# Altium footprint library PcbLib1.PcbLib: 2 footprints
Each footprint in its own frame and in the unit in brackets; x right, y up, seen from the top. Pads: shape width x height; smd on the part's side, far side on the other; paste and mask are expansions set on the pad; w line width, h text height; cw(c..) or ccw(c..) is an arc to the next point about the centre after c.
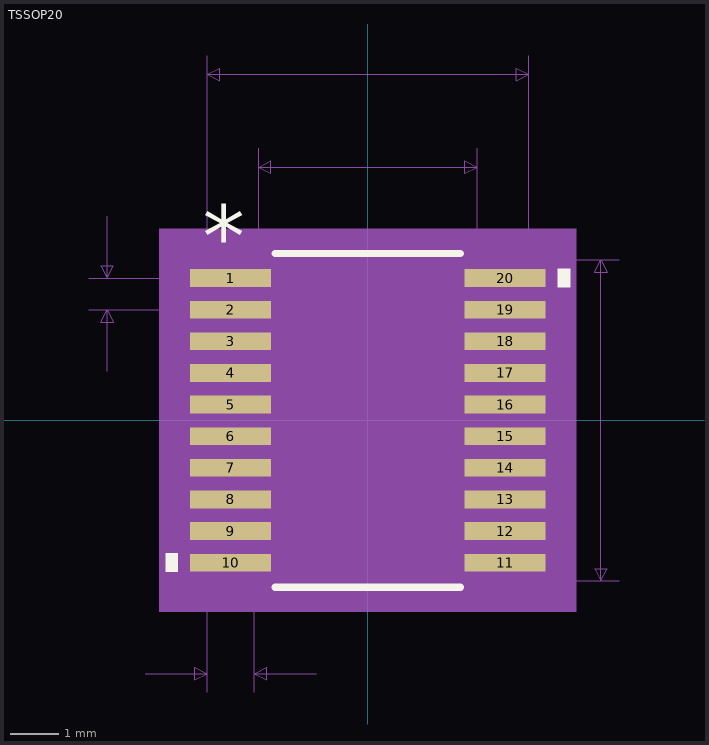
[diagram p0: the footprints below, top view; thin cyan lines are the x and y axes]

## PCBComponent_1 [mm]

## TSSOP20 [mm]
pads (20):
  rect 1.665x0.365 smd paste+0 mask+0: 1(-2.819,2.925) 2(-2.819,2.275) 3(-2.819,1.625) 4(-2.819,0.975) 5(-2.819,0.325) 6(-2.819,-0.325) 7(-2.819,-0.975) 8(-2.819,-1.625) 9(-2.819,-2.275) 10(-2.819,-2.925) 11(2.819,-2.925) 12(2.819,-2.275) 13(2.819,-1.625) 14(2.819,-0.975) 15(2.819,-0.325) 16(2.819,0.325) 17(2.819,0.975) 18(2.819,1.625) 19(2.819,2.275) 20(2.819,2.925)
Top Overlay:
  region: 3.906,3.115 4.16,3.115 4.16,2.734 3.906,2.734
  region: -3.906,-2.734 -4.16,-2.734 -4.16,-3.115 -3.906,-3.115
  lines w0.152: -1.901,-3.429 1.901,-3.429 ; -1.901,3.429 1.901,3.429
  text "*" at -3.391,3.163 h1.27
Mechanical 5:
  region: 4.287,-3.937 -4.287,-3.937 -4.287,3.937 4.287,3.937
Mechanical 7:
  lines w0.025: -5.74,2.275 -2.819,2.275 ; -5.74,2.925 -2.819,2.925 ; -5.359,1.005 -5.359,2.275 ; -5.359,4.195 -5.359,2.925 ; -4.572,-5.207 -3.302,-5.207 ; -3.302,-5.588 -3.302,0 -3.302,7.493 ; -2.337,-5.588 -2.337,0 ; -2.248,0 -2.248,5.588 ; -1.067,-5.207 -2.337,-5.207 ; 0,-3.302 5.169,-3.302 ; 0,3.302 5.169,3.302 ; 2.248,0 2.248,5.588 ; 3.302,0 3.302,7.493 ; -5.359,2.275 -5.232,2.021 -5.486,2.021 -5.359,2.275 ; -5.359,2.925 -5.232,3.179 -5.486,3.179 -5.359,2.925 ; -3.302,-5.207 -3.556,-5.334 -3.556,-5.08 -3.302,-5.207 ; -3.302,7.112 -3.048,6.985 -3.048,7.239 -3.302,7.112 ; -3.302,7.112 3.302,7.112 ; -2.337,-5.207 -2.083,-5.334 -2.083,-5.08 -2.337,-5.207 ; -2.248,5.207 -1.994,5.08 -1.994,5.334 -2.248,5.207 ; -2.248,5.207 2.248,5.207 ; 2.248,5.207 1.994,5.08 1.994,5.334 2.248,5.207 ; 3.302,7.112 3.048,6.985 3.048,7.239 3.302,7.112 ; 4.788,-3.302 4.915,-3.048 4.661,-3.048 4.788,-3.302 ; 4.788,-3.302 4.788,3.302 ; 4.788,3.302 4.915,3.048 4.661,3.048 4.788,3.302
  text "0.03in/0.762mm" at -5.042,-6.35 h0.64
  text "0.026in/0.65mm" at -10.312,2.282 h0.64
  text "0.26in/6.604mm" at 5.296,-0.318 h0.64
  text "0.26in/6.604mm" at -2.222,7.62 h0.64
  text "0.177in/4.496mm" at -2.381,5.715 h0.64
  text "Alt 2 Padstyle: b229_152h76" at -8.572,-16.002 h1.27
  text "Alt 1 Padstyle: b152_229h76" at -8.572,-14.478 h1.27
  text "Pin One Padstyle: r167_36" at -7.938,-9.906 h1.27
  text "Default Padstyle: r167_36" at -7.938,-8.382 h1.27
Mechanical 13:
  lines w0: -0.305,3.302 ccw(c0,3.302) 0.305,3.302
  lines w0.025: -3.302,-3.077 -2.248,-3.077 -2.248,-2.773 -3.302,-2.773 -3.302,-3.077 ; -3.302,-2.427 -2.248,-2.427 -2.248,-2.123 -3.302,-2.123 -3.302,-2.427 ; -3.302,-1.777 -2.248,-1.777 -2.248,-1.473 -3.302,-1.473 -3.302,-1.777 ; -3.302,-1.127 -2.248,-1.127 -2.248,-0.823 -3.302,-0.823 -3.302,-1.127 ; -3.302,-0.477 -2.248,-0.477 -2.248,-0.173 -3.302,-0.173 -3.302,-0.477 ; -3.302,0.173 -2.248,0.173 -2.248,0.477 -3.302,0.477 -3.302,0.173 ; -3.302,0.823 -2.248,0.823 -2.248,1.127 -3.302,1.127 -3.302,0.823 ; -3.302,1.473 -2.248,1.473 -2.248,1.777 -3.302,1.777 -3.302,1.473 ; -3.302,2.123 -2.248,2.123 -2.248,2.427 -3.302,2.427 -3.302,2.123 ; -3.302,2.773 -2.248,2.773 -2.248,3.077 -3.302,3.077 -3.302,2.773 ; -2.248,-3.302 -2.248,3.302 2.248,3.302 2.248,-3.302 -2.248,-3.302 ; 2.248,-3.077 3.302,-3.077 3.302,-2.773 2.248,-2.773 2.248,-3.077 ; 2.248,-2.427 3.302,-2.427 3.302,-2.123 2.248,-2.123 2.248,-2.427 ; 2.248,-1.777 3.302,-1.777 3.302,-1.473 2.248,-1.473 2.248,-1.777 ; 2.248,-1.127 3.302,-1.127 3.302,-0.823 2.248,-0.823 2.248,-1.127 ; 2.248,-0.477 3.302,-0.477 3.302,-0.173 2.248,-0.173 2.248,-0.477 ; 2.248,0.173 3.302,0.173 3.302,0.477 2.248,0.477 2.248,0.173 ; 2.248,0.823 3.302,0.823 3.302,1.127 2.248,1.127 2.248,0.823 ; 2.248,1.473 3.302,1.473 3.302,1.777 2.248,1.777 2.248,1.473 ; 2.248,2.123 3.302,2.123 3.302,2.427 2.248,2.427 2.248,2.123 ; 2.248,2.773 3.302,2.773 3.302,3.077 2.248,3.077 2.248,2.773
  text "*" at -2.184,1.956 h1.27
Mechanical 15:
  region: -2.502,-3.361 -3.906,-3.361 -3.906,3.361 -2.502,3.361 -2.502,3.556 2.502,3.556 2.502,3.361 3.906,3.361 3.906,-3.361 2.502,-3.361 2.502,-3.556 -2.502,-3.556
  lines w0.152: -3.906,-3.361 -2.502,-3.361 -2.502,-3.556 2.502,-3.556 2.502,-3.361 3.906,-3.361 3.906,3.361 2.502,3.361 2.502,3.556 -2.502,3.556 -2.502,3.361 -3.906,3.361 -3.906,-3.361
3D body: height 0.25, standoff 0, extent 0,0 0.254,0.254
3D body "PW20.step": height 1.2, standoff 0, extent -3.302,-3.302 3.302,3.302